# EAGLE library part MKDS-5N-HV/8-ZB-6.35 (library PowerSupply)
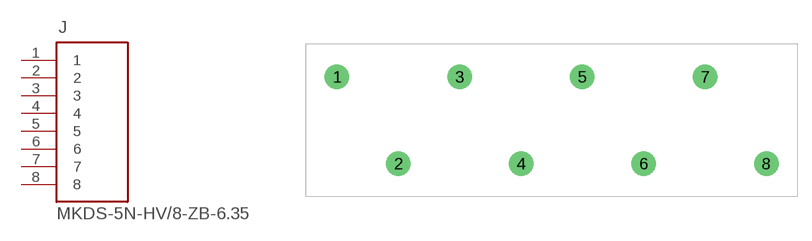
[diagram p2: symbol with the pads of 1777600; footprint 1777600]

Designator prefix J

## MKDS-5N-HV/8-ZB-6.35  [1777600]
1  1
2  2
3  3
4  4
5  5
6  6
7  7
8  8

## Footprint 1777600 (pad centres in mm)
drill 1.3 pad 2.54: 1 -22.225,4.5; 2 -15.875,-4.5; 3 -9.525,4.5; 4 -3.175,-4.5; 5 3.175,4.5; 6 9.525,-4.5; 7 15.875,4.5; 8 22.225,-4.5